# Altium schematic symbol library 2.8inch_MSP2807_Schematic_Package_Library.SchLib: 1 symbol
Pins are listed as number, name and electrical type; pins without a type are passive.

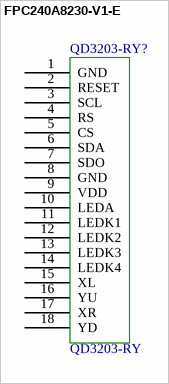
[diagram p0: symbol FPC240A8230-V1-E]

## FPC240A8230-V1-E
designator QD3203-RY?, comment QD3203-RY
footprint QD3203-RY
pins: 1 GND, 2 RESET, 3 SCL, 4 RS, 5 CS, 6 SDA, 7 SDO, 8 GND, 9 VDD, 10 LEDA, 11 LEDK1, 12 LEDK2, 13 LEDK3, 14 LEDK4, 15 XL, 16 YU, 17 XR, 18 YD